# Altium footprint library S8111-46R.PcbLib: 1 footprints
Each footprint in its own frame and in the unit in brackets; x right, y up, seen from the top. Pads: shape width x height; smd on the part's side, far side on the other; paste and mask are expansions set on the pad; w line width, h text height; cw(c..) or ccw(c..) is an arc to the next point about the centre after c.
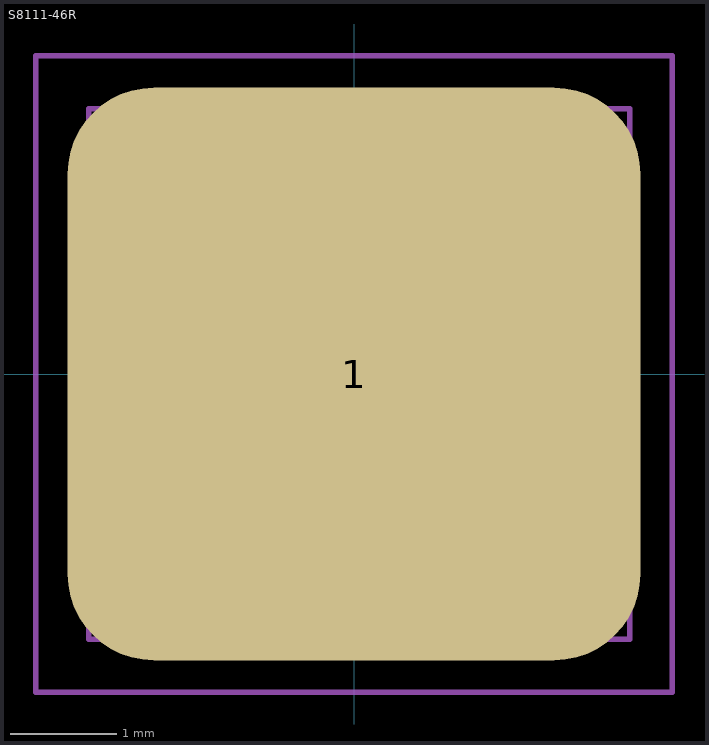
[diagram p0: the footprint, top view; thin cyan lines are the x and y axes]

## S8111-46R [mm]
pads (1):
  rrect30% 5.4x5.4 smd mask+0.05: 1(0,0)
Top Assembly:
  lines w0.05: -1,-2.5 -2.5,-2.5 -2.5,2.5 2.6,2.5 2.6,-2.5 1,-2.5 ; -1,-2.5 -1,1.5 1,1.5 1,-2.5 ; -1,-2.5 1,-2.5
Top Courtyard:
  lines w0.05: -3,-3 -3,3 3,3 3,-3 -3,-3
3D body "s8111-46r.stp": height 2.05, standoff 0, extent -2.5,-2.55 2.5,2.55